# Altium footprint library MODULE_ESP32S.PcbLib: 1 footprints
Each footprint in its own frame and in the unit in brackets; x right, y up, seen from the top. Pads: shape width x height; smd on the part's side, far side on the other; paste and mask are expansions set on the pad; w line width, h text height; cw(c..) or ccw(c..) is an arc to the next point about the centre after c.
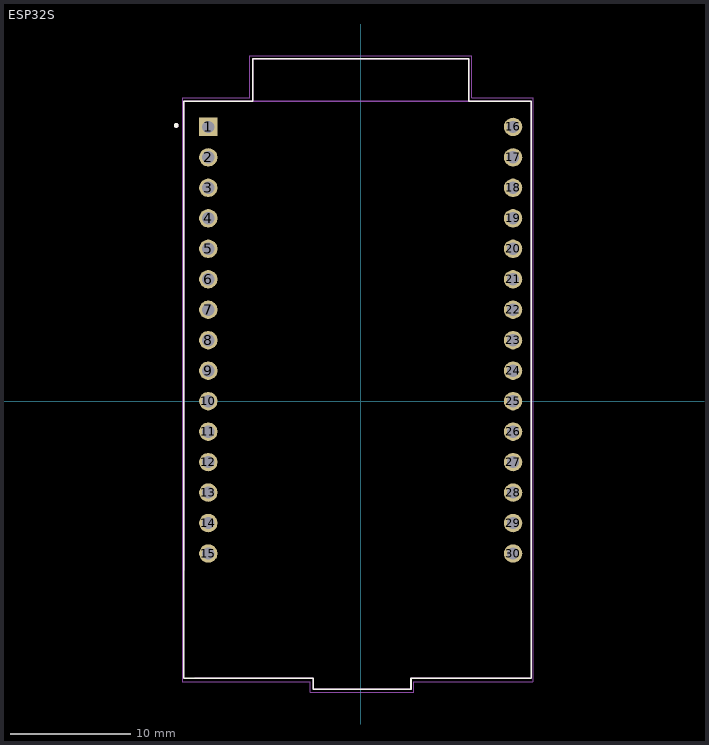
[diagram p0: the footprint, top view; thin cyan lines are the x and y axes]

## ESP32S [mm]
pads (30):
  rect 1.53x1.53 / inner round 1.53 / far side rect 1.53x1.53 hole 1.02 mask+0.05: 1(-12.7,22.86)
  round 1.53 hole 1.02 mask+0.05: 2(-12.7,20.32) 3(-12.7,17.78) 4(-12.7,15.24) 5(-12.7,12.7) 6(-12.7,10.16) 7(-12.7,7.62) 8(-12.7,5.08) 9(-12.7,2.54) 10(-12.7,0) 11(-12.7,-2.54) 12(-12.7,-5.08) 13(-12.7,-7.62) 14(-12.7,-10.16) 15(-12.7,-12.7) 16(12.7,22.86) 17(12.7,20.32) 18(12.7,17.78) 19(12.7,15.24) 20(12.7,12.7) 21(12.7,10.16) 22(12.7,7.62) 23(12.7,5.08) 24(12.7,2.54) 25(12.7,0) 26(12.7,-2.54) 27(12.7,-5.08) 28(12.7,-7.62) 29(12.7,-10.16) 30(12.7,-12.7)
Top Overlay:
  circle w0.2: c-15.367,22.987 r0.1
  lines w0.127: -14.732,-23.103 -14.732,-22.603 -14.732,24.999 -9,24.999 -9,28.532 9,28.532 9,24.999 14.224,24.999 14.224,-23.103 4.192,-23.103 4.192,-24.003 -3.938,-24.003 -3.938,-23.103 -14.732,-23.103
Mechanical 13:
  circle w0.2: c-15.367,22.987 r0.1
  lines w0.127: -14.732,-14.086 -14.732,24.999 -9,24.999 ; -13.818,-23.103 -3.938,-23.103 -3.938,-24.003 4.192,-24.003 4.192,-23.103 14.082,-23.103 ; 14.224,-14.086 14.224,24.999 9,24.999 ; -9,24.999 9,24.999 ; -9,24.999 -9,28.532 9,28.532 9,24.999
Mechanical 15:
  lines w0.05: -14.859,-23.383 -4.188,-23.383 -4.188,-24.253 4.442,-24.253 4.442,-23.383 14.332,-23.383 ; -14.859,-23.368 -14.859,25.279 -9.25,25.279 -9.25,28.782 9.25,28.782 9.25,25.279 14.351,25.279 14.351,-23.368
3D body "ESP-32_v1.STEP": height 9.2, standoff -3.2, extent -14.403,-22.671 14.097,28.259